# Altium schematic symbol library SCH - RF - ATTENUATOR - MACOM MAATSS0017TR.SCHLIB: 1 symbol
Pins are listed as number, name and electrical type; pins without a type are passive.

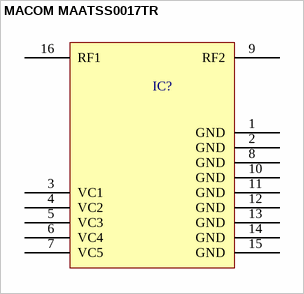
[diagram p0: symbol MACOM MAATSS0017TR]

## MACOM MAATSS0017TR
designator IC?
pins: 1 GND, 2 GND, 3 VC1, 4 VC2, 5 VC3, 6 VC4, 7 VC5, 8 GND, 9 RF2, 10 GND, 11 GND, 12 GND, 13 GND, 14 GND, 15 GND, 16 RF1